# Altium schematic symbol library KeyBoard.SCHLIB: 33 symbols
Pins are listed as number, name and electrical type; pins without a type are passive.

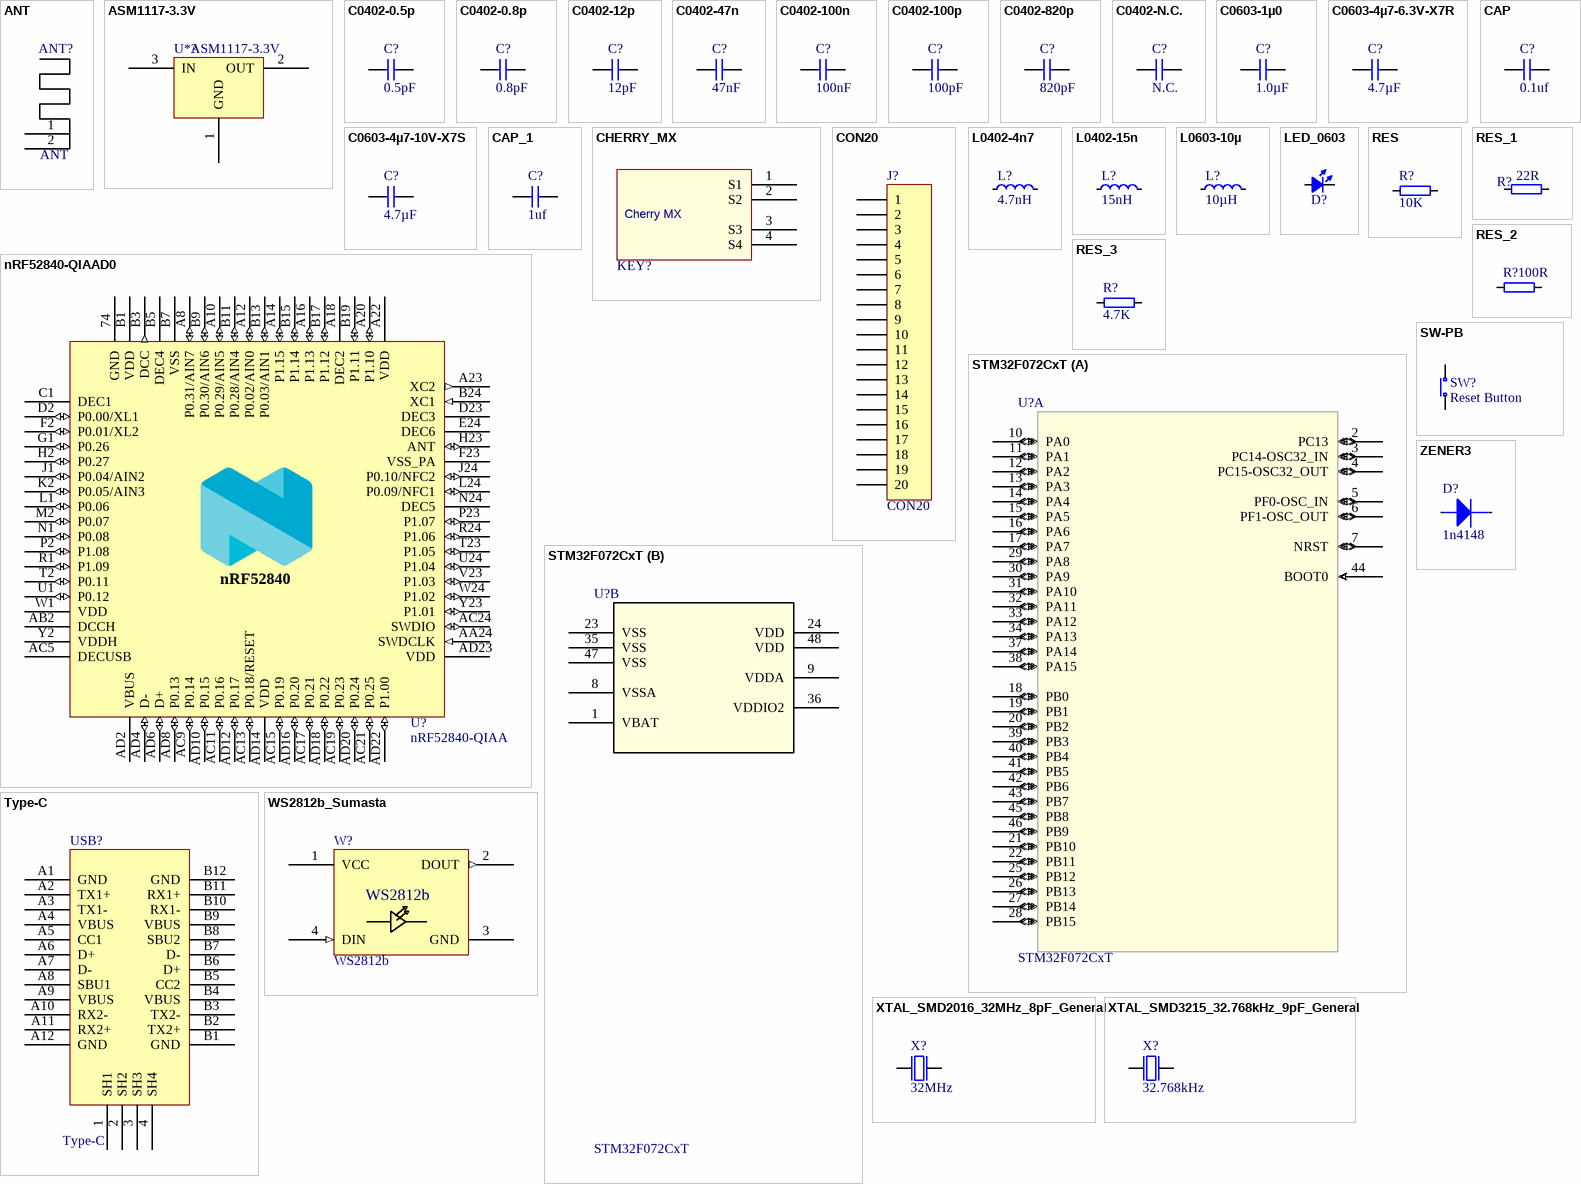
[diagram p0: symbols ANT to ZENER3]

## ANT
designator ANT?
footprint ANT-PCB-2.4G-IFA-AN043-TI-ORIGIN
pins: 1, 2

## ASM1117-3.3V
designator U*?
三端可调或固定电压3.3V
footprint SOT-89
pins: 1 GND, 2 OUT, 3 IN

## C0402-0.5p
designator C?, comment 0.5pF
Capacitor, NP0, ±10%; Part Number: C0402-0.5p; Note: 50V; LatestRevisionDate: 2017-02-23; Pin Count: 2; Publisher: Nordic Semiconductor; Published: 2009-05-08; Value: 0.5pF; Footprint Doc: 0402
footprint C 0402_L (无极性贴片电容)
pins: 1, 2

## C0402-0.8p
designator C?, comment 0.8pF
Capacitor, NP0, ±10%; Part Number: C0402-0.8p; Note: 50V; LatestRevisionDate: 2012-11-21; Pin Count: 2; Publisher: Nordic Semiconductor; Published: 2009-05-08; Value: 0.8pF; Footprint Doc: 0402
footprint C 0402_L (无极性贴片电容)
pins: 1, 2

## C0402-12p
designator C?, comment 12pF
Capacitor, NP0, ±2%; Part Number: C0402-12p; Note: 50V; LatestRevisionDate: 2011-05-11; Pin Count: 2; Publisher: Nordic Semiconductor; Published: 2009-05-08; Value: 12pF; Footprint Doc: 0402
footprint C 0402_L (无极性贴片电容)
pins: 1, 2

## C0402-47n
designator C?, comment 47nF
Capacitor, X7R, ±10%; Part Number: C0402-47n; Note: Chip Cap 10%; LatestRevisionDate: 2009-05-08; Pin Count: 2; Publisher: Nordic Semiconductor; Published: 2009-05-08; Value: 47nF; Footprint Doc: 0402
footprint C 0402_L (无极性贴片电容)
pins: 1, 2

## C0402-100n
designator C?, comment 100nF
Capacitor, X7R, ±10%; Part Number: C0402-100n; Note: 16V; LatestRevisionDate: 2009-11-23; Pin Count: 2; Publisher: Nordic Semiconductor; Published: 2009-05-08; Value: 100nF; Footprint Doc: 0402
footprint C 0402_L (无极性贴片电容)
pins: 1, 2

## C0402-100p
designator C?, comment 100pF
Capacitor, NP0, ±5%; Part Number: C0402-100p; Note: 50V; LatestRevisionDate: 2009-05-08; Pin Count: 2; Publisher: Nordic Semiconductor; Published: 2009-05-08; Value: 100pF; Footprint Doc: 0402
footprint C 0402_L (无极性贴片电容)
pins: 1, 2

## C0402-820p
designator C?, comment 820pF
Capacitor, NP0, ±5%; Part Number: C0402-820p; Note: 50V; LatestRevisionDate: 2009-05-08; Pin Count: 2; Publisher: Nordic Semiconductor; Published: 2009-05-08; Value: 820pF; Footprint Doc: 0402
footprint C 0402_L (无极性贴片电容)
pins: 1, 2

## C0402-N.C.
designator C?, comment N.C.
Not mounted; Part Number: C0402-N.C.; Assembly: Not mounted; LatestRevisionDate: 2009-05-08; Pin Count: 2; Publisher: Nordic Semiconductor; Published: 2009-05-08; Value: N.C.; Footprint Doc: 0402
footprint C 0402_L (无极性贴片电容)
pins: 1, 2

## C0603-1µ0
designator C?, comment 1.0µF
Capacitor, X7R, ±10%; Part Number: C0603-1µ0; Note: 16V; LatestRevisionDate: 2013-06-05; Pin Count: 2; Publisher: Nordic Semiconductor; Published: 2009-05-08; Value: 1.0µF; Footprint Doc: 0603
footprint C 0402_L (无极性贴片电容)
pins: 1, 2

## C0603-4µ7-6.3V-X7R
designator C?, comment 4.7µF
Capacitor, X7R, ±10%; Part Number: C0603-4µ7-6.3V-X7R; Note: 6.3V; LatestRevisionDate: 2015-06-10; Pin Count: 2; Publisher: Nordic Semiconductor; Published: 2015-06-10; Value: 4.7µF; Footprint Doc: 0603
footprint C 0402_L (无极性贴片电容)
pins: 1, 2

## C0603-4µ7-10V-X7S
designator C?, comment 4.7µF
Capacitor, X7S, ±10%; Part Number: C0603-4µ7-10V-X7S; Note: 10V; LatestRevisionDate: 2016-08-15; Pin Count: 2; Publisher: Nordic Semiconductor; Published: 2016-08-15; Value: 4.7µF; Footprint Doc: 0603
footprint C 0402_L (无极性贴片电容)
pins: 1, 2

## CAP
designator C?, comment 0.1uf
Capacitor, NP0, ?.1pF; Part Number: C0402-1.2p; Value: 1.2pF; Note: 50V; Artikkelnr Noca: 20029157; Artikkelnr Simpro: N.A.; Manufacturer: *; Manufacturer Part Number: *; Datasheet: *; LatestRevisionDate: 2011-05-11; Pin Count: 2; Publisher: Nordic Semiconductor; Published: 2009-05-08; Supplier: *; Supplier part number: *; 2nd source Supplier: *; 2nd source part number: *; Footprint Doc: 0402
footprint C 0603_L (无极性贴片电容)
pins: 1, 2

## CAP_1
designator C?, comment 1uf
Capacitor, NP0, ?.1pF; Part Number: C0402-1.2p; Value: 1.2pF; Note: 50V; Artikkelnr Noca: 20029157; Artikkelnr Simpro: N.A.; Manufacturer: *; Manufacturer Part Number: *; Datasheet: *; LatestRevisionDate: 2011-05-11; Pin Count: 2; Publisher: Nordic Semiconductor; Published: 2009-05-08; Supplier: *; Supplier part number: *; 2nd source Supplier: *; 2nd source part number: *; Footprint Doc: 0402
footprint C 0603_L (无极性贴片电容)
pins: 1, 2

## CHERRY_MX
designator KEY?  (value not drawn)
footprint CHERRYMX
pins: 1 S1, 2 S2, 3 S3, 4 S4
text: Cherry MX

## CON20
designator J?
Connector
footprint HDR2.54-LI-20P (排针，20脚)
pins: 1, 2, 3, 4, 5, 6, 7, 8, 9, 10, 11, 12, 13, 14, 15, 16, 17, 18, 19, 20

## L0402-4n7
designator L?, comment 4.7nH
High frequency chip inductor ±5%; Part Number: L0402-4n7; LatestRevisionDate: 2012-09-19; Pin Count: 2; Publisher: Nordic Semiconductor; Published: 2009-05-08; Value: 4.7nH; Note: High frequency chip inductor ±5%; Footprint Doc: 0402
footprint L 0603 (小功率贴片电感)
pins: 1, 2

## L0402-15n
designator L?, comment 15nH
High frequency chip inductor ±10%; Part Number: L0402-15n; LatestRevisionDate: 2012-09-19; Pin Count: 2; Publisher: Nordic Semiconductor; Published: 2010-07-12; Value: 15nH; Footprint Doc: 0402
footprint L 0603 (小功率贴片电感)
pins: 1, 2

## L0603-10µ
designator L?, comment 10µH
Chip inductor, IDC,min = 50 mA, ±20%; Part Number: L0603-10µ; LatestRevisionDate: 2012-09-19; Pin Count: 2; Publisher: Nordic Semiconductor; Published: 2010-02-24; Value: 10µH; Footprint Doc: 0603
footprint L 0603 (小功率贴片电感)
pins: 1, 2

## LED_0603
designator D?  (value not drawn)
LED
footprint LED 0603B (蓝色0603LED)
pins: 1 A, 2 K

## nRF52840-QIAAD0
designator U?, comment nRF52840-QIAA
Multi-protocol Bluetooth Low Energy, IEEE 802.15.4, ANT and 2.4GHz proprietary system-on-chip; Part Number: nRF52840-QIAAD0; Manufacturer: Nordic Semiconductor; LatestRevisionDate: 2018-12-04; Pin Count: 73; Publisher: Nordic Semiconductor; Published: 2018-12-04; Value: nRF52840-QIAA; Note: *; Footprint Doc: AQFN-73; Manufacturer Part Number: nRF52840-QIAAD0
footprint AQFN50P700X700X85_HS-74N
pins: 74 GND (power), A8 P0.31/AIN7 (io), A10 P0.29/AIN5 (io), A12 P0.02/AIN0 (io), A14 P1.15 (io), A16 P1.13 (io), A18 DEC2 (power), A20 P1.10 (io), A22 VDD (power), A23 XC2 (out), AA24 SWDCLK (in), AB2 DCCH (power), AC5 DECUSB (power), AC9 P0.14 (io), AC11 P0.16 (io), AC13 P0.18/RESET (io), AC15 P0.19 (io), AC17 P0.21 (io), AC19 P0.23 (io), AC21 P0.25 (io), AC24 SWDIO (io), AD2 VBUS (power), AD4 D- (io), AD6 D+ (io), AD8 P0.13 (io), AD10 P0.15 (io), AD12 P0.17 (io), AD14 VDD (power), AD16 P0.20 (io), AD18 P0.22 (io), AD20 P0.24 (io), AD22 P1.00 (io), AD23 VDD (power), B1 VDD (power), B3 DCC (out), B5 DEC4 (power), B7 VSS (power), B9 P0.30/AIN6 (io), B11 P0.28/AIN4 (io), B13 P0.03/AIN1 (io), B15 P1.14 (io), B17 P1.12 (io), B19 P1.11 (io), B24 XC1 (in), C1 DEC1 (power), D2 P0.00/XL1 (io), D23 DEC3 (power), E24 DEC6 (power), F2 P0.01/XL2 (io), F23 VSS_PA (power), G1 P0.26 (io), H2 P0.27 (io), H23 ANT (io), J1 P0.04/AIN2 (io), J24 P0.10/NFC2 (io), K2 P0.05/AIN3 (io), L1 P0.06 (io), L24 P0.09/NFC1 (io), M2 P0.07 (io), N1 P0.08 (io), N24 DEC5 (power), P2 P1.08 (io), P23 P1.07 (io), R1 P1.09 (io), R24 P1.06 (io), T2 P0.11 (io), T23 P1.05 (io), U1 P0.12 (io), U24 P1.04 (io), V23 P1.03 (io), W1 VDD (power), W24 P1.02 (io), Y2 VDDH (power), Y23 P1.01 (io)
text: nRF52840

## RES
designator R?, comment 10K
footprint R 0603_L (1/10W贴片电阻)
pins: 1, 2

## RES_1
designator R?, comment 22R
footprint R 0603_L (1/10W贴片电阻)
pins: 1, 2

## RES_2
designator R?, comment 100R
footprint R 0603_L (1/10W贴片电阻)
pins: 1, 2

## RES_3
designator R?, comment 4.7K
footprint R 0603_L (1/10W贴片电阻)
pins: 1, 2

## STM32F072CxT
designator U?
Imported; Vendor: STMicroelectronics; C: Copyright (C) 2016 Accelerated Designs. All rights reserved; Copyright: Copyright (C) 2016 Accelerated Designs. All rights reserved; Manufacturer_Part_Number: stm32f072cxt; RefDes: RefDes; Type: Type; Value: Value
footprint LQFP48 7X7_L (48脚，体宽7x7mm，脚距0.5mm)
part A pins: 2 PC13 (io), 3 PC14-OSC32_IN (io), 4 PC15-OSC32_OUT (io), 5 PF0-OSC_IN (io), 6 PF1-OSC_OUT (io), 7 NRST (io), 10 PA0 (io), 11 PA1 (io), 12 PA2 (io), 13 PA3 (io), 14 PA4 (io), 15 PA5 (io), 16 PA6 (io), 17 PA7 (io), 18 PB0 (io), 19 PB1 (io), 20 PB2 (io), 21 PB10 (io), 22 PB11 (io), 25 PB12 (io), 26 PB13 (io), 27 PB14 (io), 28 PB15 (io), 29 PA8 (io), 30 PA9 (io), 31 PA10 (io), 32 PA11 (io), 33 PA12 (io), 34 PA13 (io), 37 PA14 (io), 38 PA15 (io), 39 PB3 (io), 40 PB4 (io), 41 PB5 (io), 42 PB6 (io), 43 PB7 (io), 44 BOOT0 (in), 45 PB8 (io), 46 PB9 (io)
part B pins: 1 VBAT (power), 8 VSSA (power), 9 VDDA (power), 23 VSS (power), 24 VDD (power), 35 VSS (power), 36 VDDIO2 (power), 47 VSS (power), 48 VDD (power)

## SW-PB
designator SW?, comment Reset Button
Tactile Switch, SPNO, SMD, 160gf, 6.2x6.3x2.5mm; Part Number: Switch-PB-6.2x6.3mm-SMD; Manufacturer: Dailywell; Manufacturer Part Number: TS604VM1-025BR-R; 2nd source part number: 688-SKHUALE010; Value: PB SW; Artikkelnr Noca: 50019106; Artikkelnr Simpro: N.A.; Datasheet: \\hizz\pro\app9717\Datasheet\switches\Daliywell\TS604VM1-025BR-R.pdf; Footprint Doc: Switch-PB-6.2x6.3mm-SMD; LatestRevisionDate: 2016-04-21; Pin Count: 4; Publisher: Nordic Semiconductor; Published: 2010-02-01; Note: *; Supplier: Cabcon; Supplier part number: TS604VM1-025BR-R; 2nd source Supplier: Mouser
footprint TSW SMD-6*6*5 (6*6*5mm)
pins: 1 N.O, 2 COM

## Type-C
designator USB?
footprint usb typec
pins: 1 SH1, 2 SH2, 3 SH3, 4 SH4, A1 GND, A2 TX1+, A3 TX1-, A4 VBUS, A5 CC1, A6 D+, A7 D-, A8 SBU1, A9 VBUS, A10 RX2-, A11 RX2+, A12 GND, B1 GND, B2 TX2+, B3 TX2-, B4 VBUS, B5 CC2, B6 D+, B7 D-, B8 SBU2, B9 VBUS, B10 RX1-, B11 RX1+, B12 GND

## WS2812b_Sumasta
designator W?, comment WS2812b
The Infamous Chinese Chainable RGB LED
footprint DIOC500500X250_NR (WS2812B PLCC 4, Body 5.0x5.0x.2.5mm, IPC Medium Density)
pins: 1 VCC (power), 2 DOUT (out), 3 GND (power), 4 DIN (in)

## XTAL_SMD2016_32MHz_8pF_General
designator X?, comment 32MHz
XTAL SMD 2016, 32MHz, Cl=8pF, Total Tol: ±40ppm; Part Number: XTAL_SMD2016_32MHz_8pF_General; LatestRevisionDate: 2016-08-19; Pin Count: 4; Publisher: Nordic Semiconductor; Published: 2016-08-19; Value: 32MHz; Footprint Doc: XTAL_2016
footprint OSC 3225-4P (3.2*2.5*0.7mm(长宽高))
pins: 1 inp, 2 GND hidden to GND, 3 out, 4 GND hidden to GND

## XTAL_SMD3215_32.768kHz_9pF_General
designator X?, comment 32.768kHz
XTAL SMD 3215, 32.768kHz, Cl=9pF, Total Tol: ±50ppm; Part Number: XTAL_SMD3215_32.768kHz_9pF_General; LatestRevisionDate: 2016-08-19; Pin Count: 2; Publisher: Nordic Semiconductor; Published: 2016-08-19; Value: 32.768kHz; Footprint Doc: XTAL_3215
footprint OSC 3215-2P (3.2*1.5*0.6mm(长宽高))
pins: 1 inp, 2 out

## ZENER3
designator D?, comment 1n4148
Zener Diode
footprint SOD-123 (2.7x1.6X1.1mm（长宽高，不包括引脚）)
pins: 1 A, 2 K